# EAGLE library part LMV761 (library eric-custom)
LMV761 Comparator, SOIC8 package
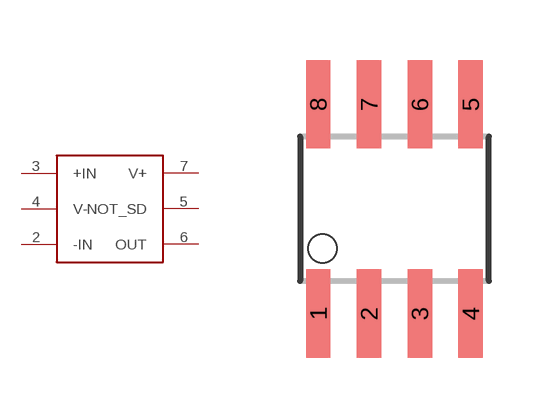
[diagram p2: symbol with the pads of SO08; footprint SO08]

Designator prefix -

## LMV761  [SO08]
2  -IN
3  +IN
4  V-
5  NOT_SD
6  OUT
7  V+

## Footprint SO08 (pad centres in mm)
Small Outline Package
smd 0.61 x 2.21: 1 -1.905,-2.616; 2 -0.635,-2.616; 3 0.635,-2.616; 4 1.905,-2.616; 5 1.905,2.616; 6 0.635,2.616; 7 -0.635,2.616; 8 -1.905,2.616